# Altium integrated library MUR420RLG.IntLib: 1 symbol
Pins are listed as number, name and electrical type; pins without a type are passive.

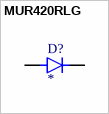
[diagram p0: symbol MUR420RLG]

## MUR420RLG
designator D?
FAST RECOVERY DIODE, 4A, 200V AXIAL, FULL REEL; Repetitive Peak Reverse Voltage:200V; Average Forward Current:4A; Diode Configuration:Single; Forward Voltage Max:890mV; Reverse Recovery Time:35ns; Forward Surge Current:125A RoHS Compliant: Yes; MF: ON Semiconductor; MP: MUR420RLG.; Package: None; Value: *; Check_prices: https://www.snapeda.com/parts/MUR420RLG./Onsemi/view-part/?ref=eda; Price: None; SnapEDA_Link: https://www.snapeda.com/parts/MUR420RLG./Onsemi/view-part/?ref=snap; Availability: In Stock
footprint DIOAD1990W125L900D530
pins: A, C K